# Altium footprint library WE-SPC.PcbLib: 3 footprints
Each footprint in its own frame and in the unit in brackets; x right, y up, seen from the top. Pads: shape width x height; smd on the part's side, far side on the other; paste and mask are expansions set on the pad; w line width, h text height; cw(c..) or ccw(c..) is an arc to the next point about the centre after c.
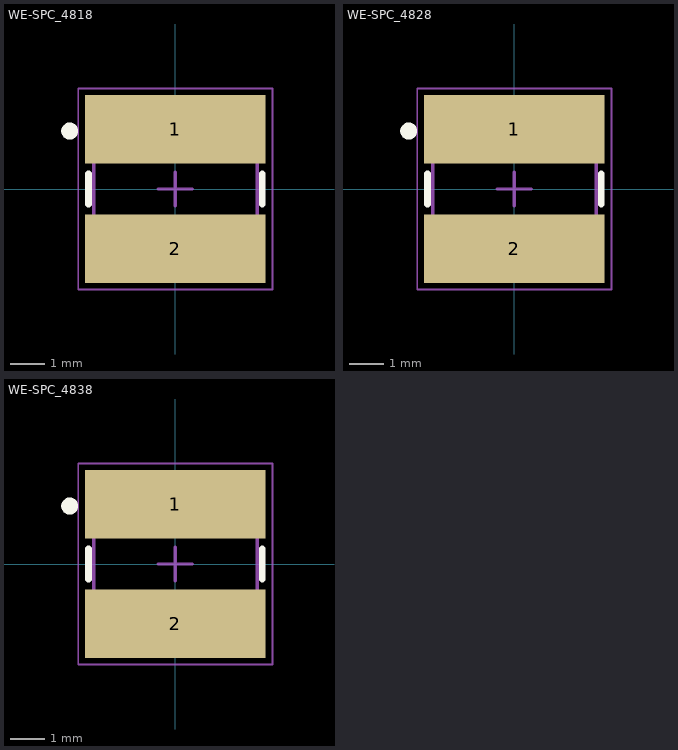
[diagram p0: the footprints below, top view; thin cyan lines are the x and y axes]

## WE-SPC_4818 [mm] "SMD Shielded Power Inductor, body 4.8x4.8mm"
height 1.8
pads (2):
  rect 5.3x2 smd: 1(0,1.75) 2(0,-1.75)
Top Overlay:
  circle w0.25: c-3.1,1.7 r0.125
  lines w0.2: -2.55,-0.45 -2.55,0.45 ; 2.55,-0.45 2.55,0.45
Top Assembly:
  circle w0.1: c0,1.6 r0.3
  lines w0.1: -2.4,-2.4 2.4,-2.4 2.4,2.4 -2.4,2.4 -2.4,-2.4
Top Designator:
  text ".Designator" at -3.647,-0.357 h1
Top 3D Body:
  circle w0.1: c0,1.6 r0.3
  lines w0.1: -2.4,-2.4 2.4,-2.4 2.4,2.4 -2.4,2.4 -2.4,-2.4
Top Courtyard:
  lines w0.05: -2.85,-2.95 2.85,-2.95 2.85,2.95 -2.85,2.95 -2.85,-2.95
Top Component Center:
  lines w0.1: -0.5,0 0.5,0 ; 0,-0.5 0,0.5
3D body "74408941xx.stp": height 1.8, standoff -0.01, extent -2.41,-2.41 2.41,2.41

## WE-SPC_4828 [mm] "SMD Shielded Power Inductor, body 4.8x4.8mm"
height 2.8
pads (2):
  rect 5.3x2 smd: 1(0,1.75) 2(0,-1.75)
Top Overlay:
  circle w0.25: c-3.1,1.7 r0.125
  lines w0.2: -2.55,-0.45 -2.55,0.45 ; 2.55,-0.45 2.55,0.45
Top Assembly:
  circle w0.1: c0,1.6 r0.3
  lines w0.1: -2.4,-2.4 -2.4,2.4 2.4,2.4 2.4,-2.4 -2.4,-2.4
Top Designator:
  text ".Designator" at -3.647,-0.357 h1
Top 3D Body:
  circle w0.1: c0,1.6 r0.3
  lines w0.1: -2.4,-2.4 -2.4,2.4 2.4,2.4 2.4,-2.4 -2.4,-2.4
Top Courtyard:
  lines w0.05: -2.85,-2.95 -2.85,2.95 2.85,2.95 2.85,-2.95 -2.85,-2.95
Top Component Center:
  lines w0.1: -0.5,0 0.5,0 ; 0,-0.5 0,0.5
3D body "74408942xx.stp": height 2.8, standoff -0.01, extent -2.41,-2.41 2.41,2.41

## WE-SPC_4838 [mm] "SMD Shielded Power Inductor, body 4.8x4.8mm"
height 3.8
pads (2):
  rect 5.3x2 smd: 1(0,1.75) 2(0,-1.75)
Top Overlay:
  circle w0.25: c-3.1,1.7 r0.125
  lines w0.2: -2.55,-0.45 -2.55,0.45 ; 2.55,-0.45 2.55,0.45
Top Assembly:
  circle w0.1: c0,1.6 r0.3
  lines w0.1: -2.4,-2.4 -2.4,2.4 2.4,2.4 2.4,-2.4 -2.4,-2.4
Top Designator:
  text ".Designator" at -3.647,-0.357 h1
Top 3D Body:
  circle w0.1: c0,1.6 r0.3
  lines w0.1: -2.4,-2.4 -2.4,2.4 2.4,2.4 2.4,-2.4 -2.4,-2.4
Top Courtyard:
  lines w0.05: -2.85,-2.95 -2.85,2.95 2.85,2.95 2.85,-2.95 -2.85,-2.95
Top Component Center:
  lines w0.1: -0.5,0 0.5,0 ; 0,-0.5 0,0.5
3D body "74408943xx.stp": height 3.8, standoff -0.01, extent -2.41,-2.41 2.41,2.41